# Altium schematic symbol library Switch.SchLib: 1 symbol
Pins are listed as number, name and electrical type; pins without a type are passive.

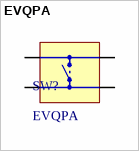
[diagram p0: symbol EVQPA]

## EVQPA
designator SW?
5N Type Light Touch Switches
footprint EVQPAx04M
footprint EVQPAx05R
footprint EVQPAx07K
footprint EVQPAx09K
pins: 1 (power), 2 (power), 3 (power), 4 (power)